# EAGLE library part TLV3501 (library ds_ic_opa)
4.5ns, Rail-to-Rail, High Speed Comparator with Shutdown
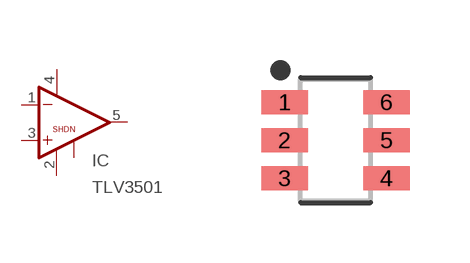
[diagram p8: symbol with the pads of SOT95P280X145-6N; footprint SOT95P280X145-6N]

Designator prefix IC

## TLV3501AIDB (DATASHEET: https://www.ti.com/lit/ds/symlink/tlv3502.pdf?ts=1749128525689; DESCRIPTION: 6.5mV 10pA SOT-23-6 Comparators ROHS; LCSC_PART: C193413; VALUE: TLV3501AIDBVR)  [SOT95P280X145-6N]
1  -IN  in
2  V-  pwr
3  +IN  in
4  V+  pwr
5  OUT  out
6  SHDN

## Footprint SOT95P280X145-6N (pad centres in mm)
6-SOT23, 0.95 mm pitch, 2.80 mm span, 2.92 X 1.63 X 1.45 mm body 6-pin SOT23 package with 0.95 mm pitch, 2.80 mm span with body size 2.92 X 1.63 X 1.45 mm
smd 1.165 x 0.597: 1 -1.275,0.95; 2 -1.275,0; 3 -1.275,-0.95; 4 1.275,-0.95; 5 1.275,0; 6 1.275,0.95